# EAGLE library part SSW-109-02-S-S (library con-samtec)
THROUGH-HOLE .025" SQ POST SOCKET Source: Samtec SSW.pdf
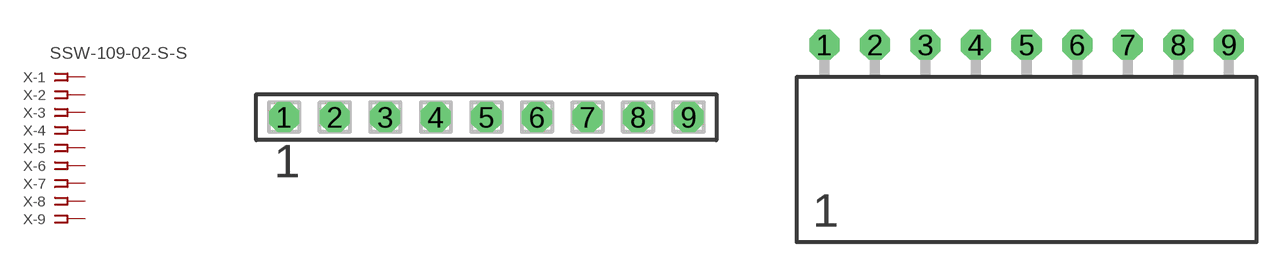
[diagram p95: symbol with the pads of SSW-109-02-S-S; footprints SSW-109-02-S-S, SSW-109-02-S-S-RA]

Designator prefix X; gates -1=FPINV -2=FPIN -3=FPIN -4=FPIN -5=FPIN -6=FPIN -7=FPIN -8=FPIN -9=FPIN

## SSW-109-02-S-S (MPN: SSW-109-02-S-S; OC_FARNELL: unknown; OC_NEWARK: 11P9465)  [SSW-109-02-S-S]
1  -1:1  pas
2  -2:1  pas
3  -3:1  pas
4  -4:1  pas
5  -5:1  pas
6  -6:1  pas
7  -7:1  pas
8  -8:1  pas
9  -9:1  pas

## SSW-109-02-S-S-RA (MPN: SSW-109-02-S-S-RA; OC_FARNELL: unknown; OC_NEWARK: 11P9466)  [SSW-109-02-S-S-RA]
Pads as for SSW-109-02-S-S

## Footprint SSW-109-02-S-S (pad centres in mm)
THROUGH-HOLE .025" SQ POST SOCKET Source: Samtec SSW.pdf
drill 1 pad 1.5 octagon: 1 -10.16,0; 2 -7.62,0; 3 -5.08,0; 4 -2.54,0; 5 0,0; 6 2.54,0; 7 5.08,0; 8 7.62,0; 9 10.16,0

## Footprint SSW-109-02-S-S-RA (pad centres in mm)
THROUGH-HOLE .025" SQ POST SOCKET Source: Samtec SSW.pdf
drill 1 pad 1.5 octagon: 1 -10.16,1.524; 2 -7.62,1.524; 3 -5.08,1.524; 4 -2.54,1.524; 5 0,1.524; 6 2.54,1.524; 7 5.08,1.524; 8 7.62,1.524; 9 10.16,1.524